# EAGLE library part 87264-14 (library con-molex-milli-grid)
RECEPTACAL
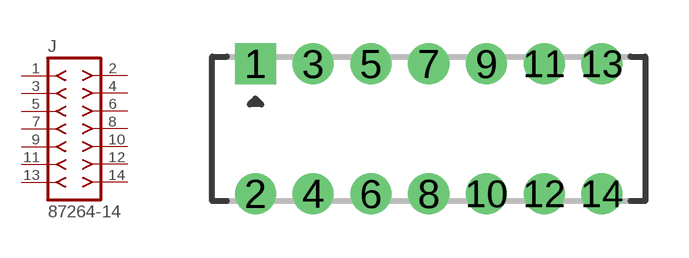
[diagram p208: symbol with the pads of 87264-14; footprint 87264-14]

Designator prefix J

## 87264-14  [87264-14]
1  1  pas
2  2  pas
3  3  pas
4  4  pas
5  5  pas
6  6  pas
7  7  pas
8  8  pas
9  9  pas
10  10  pas
11  11  pas
12  12  pas
13  13  pas
14  14  pas

## Footprint 87264-14 (pad centres in mm)
RECEPTACAL Dual Row, Side Entry
drill 0.914 square: 1 -6,2.25
drill 0.914: 2 -6,-2.25; 3 -4,2.25; 4 -4,-2.25; 5 -2,2.25; 6 -2,-2.25; 7 0,2.25; 8 0,-2.25; 9 2,2.25; 10 2,-2.25; 11 4,2.25; 12 4,-2.25; 13 6,2.25; 14 6,-2.25